# Altium schematic symbol library CONN,JST,8 Pin,2mm,RA,SMD.Schlib: 1 symbol
Pins are listed as number, name and electrical type; pins without a type are passive.

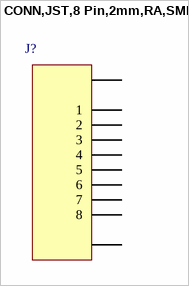
[diagram p0: symbol CONN,JST,8 Pin,2mm,RA,SMD]

## CONN,JST,8 Pin,2mm,RA,SMD
designator J?
pins: 0, 0, 1, 2, 3, 4, 5, 6, 7, 8